# EAGLE library part CINVESTAV_ADM1485 (library ijrobotics)
ADM1485: Low power RS-1485 Transceiver
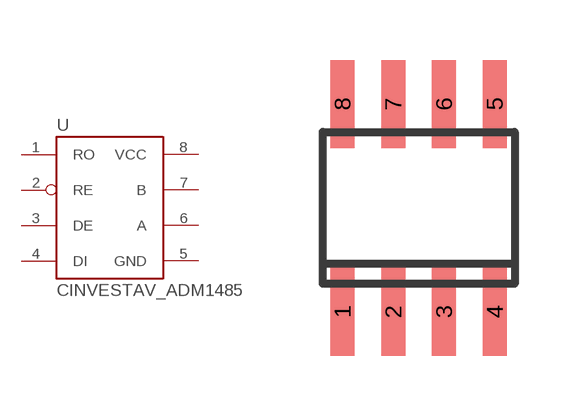
[diagram p12: symbol with the pads of CINVESTAV_SOIC8; footprint CINVESTAV_SOIC8]

Designator prefix -

## CINVESTAV_ADM1485  [CINVESTAV_SOIC8]
1  RO  out
2  RE  in
3  DE  in
4  DI  in
5  GND  pwr
6  A
7  B
8  VCC  pwr

## Footprint CINVESTAV_SOIC8 (pad centres in mm)
Small Outline IC
smd 0.6 x 2.2: 1 -1.905,-2.6; 2 -0.635,-2.6; 3 0.635,-2.6; 4 1.905,-2.6; 5 1.905,2.6; 6 0.635,2.6; 7 -0.635,2.6; 8 -1.905,2.6